# Altium footprint library ic_pmic.PcbLib: 4 footprints
Each footprint in its own frame and in the unit in brackets; x right, y up, seen from the top. Pads: shape width x height; smd on the part's side, far side on the other; paste and mask are expansions set on the pad; w line width, h text height; cw(c..) or ccw(c..) is an arc to the next point about the centre after c.
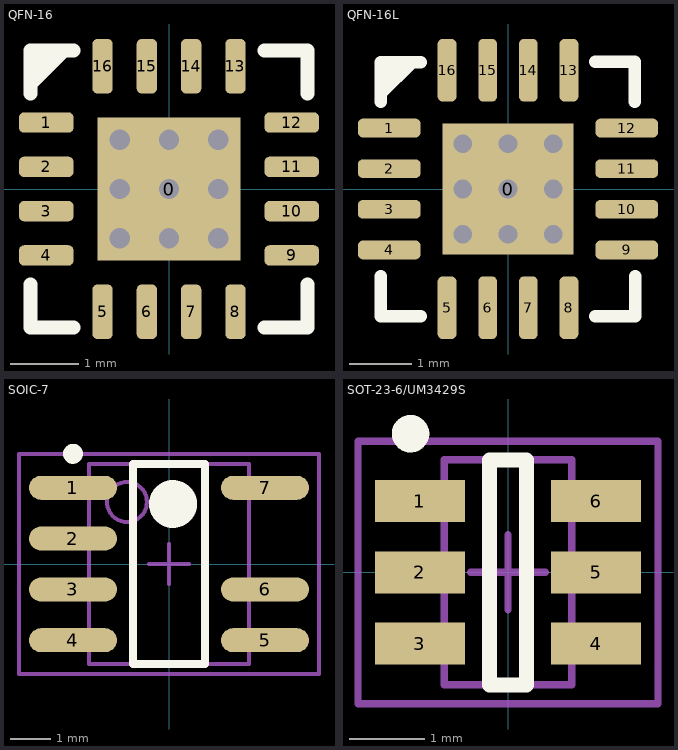
[diagram p0: the footprints below, top view; thin cyan lines are the x and y axes]

## QFN-16 [mm]
pads (17):
  rect 2.1x2.1 smd: 0(0,0)
  rrect50% 0.8x0.3 smd: 1(-1.8,0.975) 2(-1.8,0.325) 3(-1.8,-0.325) 4(-1.8,-0.975) 9(1.8,-0.975) 10(1.8,-0.325) 11(1.8,0.325) 12(1.8,0.975)
  rrect50% 0.3x0.8 smd: 5(-0.975,-1.8) 6(-0.325,-1.8) 7(0.325,-1.8) 8(0.975,-1.8) 13(0.975,1.8) 14(0.325,1.8) 15(-0.325,1.8) 16(-0.975,1.8)
via 0.725,-0.725 diameter 0.6 hole 0.3
via -0.725,-0.725 diameter 0.6 hole 0.3
via -0.725,0.725 diameter 0.6 hole 0.3
via 0.725,0.725 diameter 0.6 hole 0.3
via 0,0.725 diameter 0.6 hole 0.3
via 0,-0.725 diameter 0.6 hole 0.3
via -0.725,0 diameter 0.6 hole 0.3
via 0.725,0 diameter 0.6 hole 0.3
via 0,0 diameter 0.6 hole 0.3
Top Overlay:
  region: -2.032,2.032 -1.397,2.032 -2.032,1.397
  lines w0.2: -2.032,-1.397 -2.032,-2.032 -1.397,-2.032 ; -2.032,1.397 -2.032,2.032 -1.397,2.032 ; 1.397,-2.032 2.032,-2.032 2.032,-1.397 ; 1.397,2.032 2.032,2.032 2.032,1.397
3D body "ALSRobot-QFN16 4x4.step": height 0.92, standoff 0, extent -2,-2 2,2

## QFN-16L [mm]
pads (17):
  rect 2.1x2.1 smd: 0(0,0)
  rrect50% 1x0.3 smd: 1(-1.9,0.975) 2(-1.9,0.325) 3(-1.9,-0.325) 4(-1.9,-0.975) 9(1.9,-0.975) 10(1.9,-0.325) 11(1.9,0.325) 12(1.9,0.975)
  rrect50% 0.3x1 smd: 5(-0.975,-1.9) 6(-0.325,-1.9) 7(0.325,-1.9) 8(0.975,-1.9) 13(0.975,1.9) 14(0.325,1.9) 15(-0.325,1.9) 16(-0.975,1.9)
via 0,0 diameter 0.6 hole 0.3
via 0.725,0 diameter 0.6 hole 0.3
via -0.725,0 diameter 0.6 hole 0.3
via 0,-0.725 diameter 0.6 hole 0.3
via 0,0.725 diameter 0.6 hole 0.3
via 0.725,0.725 diameter 0.6 hole 0.3
via -0.725,0.725 diameter 0.6 hole 0.3
via -0.725,-0.725 diameter 0.6 hole 0.3
via 0.725,-0.725 diameter 0.6 hole 0.3
Top Overlay:
  region: -2.032,2.032 -1.397,2.032 -2.032,1.397
  lines w0.2: -2.032,-1.397 -2.032,-2.032 -1.397,-2.032 ; -2.032,1.397 -2.032,2.032 -1.397,2.032 ; 1.397,-2.032 2.032,-2.032 2.032,-1.397 ; 1.397,2.032 2.032,2.032 2.032,1.397
3D body "ALSRobot-QFN16 4x4.step": height 0.92, standoff 0, extent -2,-2 2,2

## SOIC-7 [mm] "SOIC, 8-Leads, Body 5.0x4.0mm (max), Pitch 1.27mm, IPC Medium Density"
height 1.75
pads (7):
  oval 2.2x0.6 smd: 1(-2.4,1.905) 2(-2.4,0.635) 3(-2.4,-0.635) 4(-2.4,-1.905) 5(2.4,-1.905) 6(2.4,-0.635) 7(2.4,1.905)
Top Overlay:
  circle w0.6: c0.1,1.5 r0.3
  circle w0.25: c-2.4,2.755 r0.125
  lines w0.2: -0.9,-2.5 0.9,-2.5 0.9,2.5 -0.9,2.5 -0.9,-2.5
Mechanical 13:
  circle w0.1: c-1.05,1.55 r0.5
  lines w0.1: -2,-2.5 2,-2.5 2,2.5 -2,2.5 -2,-2.5
Mechanical 15:
  lines w0.1: -0.5,0 0.5,0 ; 0,-0.5 0,0.5 ; -3.75,-2.75 3.75,-2.75 3.75,2.75 -3.75,2.75 -3.75,-2.75
3D body "User Library-SOIC-8-1.step": height 1.75, standoff 0, extent -3,-2.487 3,2.413

## SOT-23-6/UM3429S [mm] "SOT23, 6-Leads, Body 3.0x3.0mm (max), Pitch 0.95mm, IPC Medium Density"
height 1.1
pads (6):
  rect 1.2x0.56 smd: 1(-1.175,0.95) 2(-1.175,0) 3(-1.175,-0.95) 4(1.175,-0.95) 5(1.175,0) 6(1.175,0.95)
Top Overlay:
  circle w0.25: c-1.3,1.85 r0.125
  lines w0.2: -0.25,-1.5 -0.25,1.5 0.25,1.5 0.25,-1.5 -0.25,-1.5
Mechanical 13:
  lines w0.1: -0.85,-1.5 0.85,-1.5 0.85,1.5 -0.85,1.5 -0.85,-1.5
Mechanical 15:
  lines w0.1: -0.5,0 0.5,0 ; 0,-0.5 0,0.5 ; -2,-1.75 2,-1.75 2,1.75 -2,1.75 -2,-1.75
3D body "User Library-SOT23-6.step": height 1.3, standoff 0, extent -1.5,-1.5 1.5,1.5